# EAGLE library part 944-12-46-00 (library strasys_standard)
2.54 mm 2 - reihiger male connector
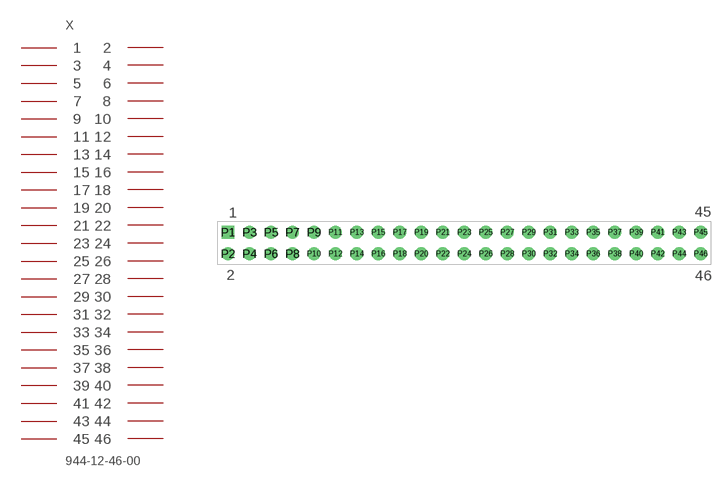
[diagram p2: symbol with the pads of 2,54_STIFTLEIST_2X23; footprint 2,54_STIFTLEIST_2X23]

Designator prefix X

## 944-12-46-00 (MPN: 944-12-46-00; SUPPLIER: W+P)  [2,54_STIFTLEIST_2X23]
P1  1
P2  2
P3  3
P4  4
P5  5
P6  6
P7  7
P8  8
P9  9
P10  10
P11  11
P12  12
P13  13
P14  14
P15  15
P16  16
P17  17
P18  18
P19  19
P20  20
P21  21
P22  22
P23  23
P24  24
P25  25
P26  26
P27  27
P28  28
P29  29
P30  30
P31  31
P32  32
P33  33
P34  34
P35  35
P36  36
P37  37
P38  38
P39  39
P40  40
P41  41
P42  42
P43  43
P44  44
P45  45
P46  46

## Footprint 2,54_STIFTLEIST_2X23 (pad centres in mm)
drill 1 square: P1 0,0
drill 1: P2 0,-2.54; P3 2.54,0; P4 2.54,-2.54; P5 5.08,0; P6 5.08,-2.54; P7 7.62,0; P8 7.62,-2.54; P9 10.16,0; P10 10.16,-2.54; P11 12.7,0; P12 12.7,-2.54; P13 15.24,0; P14 15.24,-2.54; P15 17.78,0; P16 17.78,-2.54; P17 20.32,0; P18 20.32,-2.54; P19 22.86,0; P20 22.86,-2.54; P21 25.4,0; P22 25.4,-2.54; P23 27.94,0; P24 27.94,-2.54; P25 30.48,0; P26 30.48,-2.54; P27 33.02,0; P28 33.02,-2.54; P29 35.56,0; P30 35.56,-2.54; P31 38.1,0; P32 38.1,-2.54; P33 40.64,0; P34 40.64,-2.54; P35 43.18,0; P36 43.18,-2.54; P37 45.72,0; P38 45.72,-2.54; P39 48.26,0; P40 48.26,-2.54; P41 50.8,0; P42 50.8,-2.54; P43 53.34,0; P44 53.34,-2.54; P45 55.88,0; P46 55.88,-2.54